# Altium schematic symbol library LDS_ICs.SchLib: 1 symbol
Pins are listed as number, name and electrical type; pins without a type are passive.

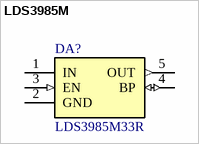
[diagram p0: symbol LDS3985M]

## LDS3985M
designator DA?, comment LDS3985M33R
Very low drop and low noise BiCMOS 300 mA  voltage regulator; ValueSch: LDS3985M33R
pins: 1 IN (power), 2 GND (power), 3 EN (in), 4 BP (io), 5 OUT (out)